# EAGLE library part WE-RJ45_LAN_1000_BASET_STD+2USB_GREEN/ORANGE-YELLOW (library Wuerth_Elektronik_eiSos_Version_6-12)
WE-RJ45 LAN Transformer 1000 BaseT , STD + 2 USB with LED - RJ45 connector with integrated transformer common mode choke - 350 µH min.OCL with 8 mA bias - Complies with IEEE 802.3 - Extended temperature range from 0°C to +70°C available -- ADSL Modem -- Embedded PC -- LAN network applications -- Hub, Router, Switches
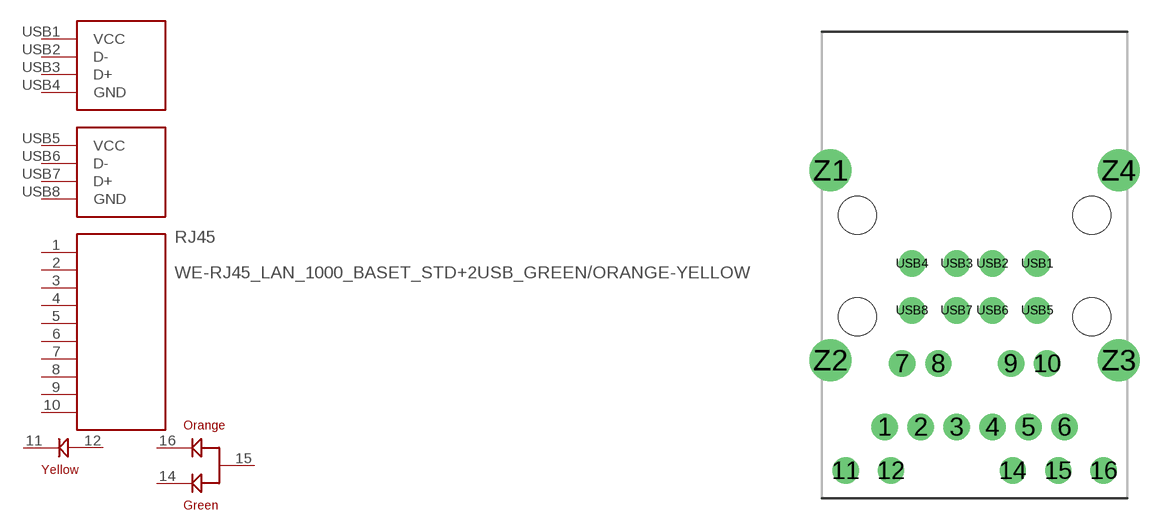
[diagram p130: symbol with the pads of WE-RJ45_LAN_1000_BASET_7497111611*; footprint WE-RJ45_LAN_1000_BASET_7497111611*]

Designator prefix RJ45

## WE-RJ45_LAN_1000_BASET_STD+2USB_GREEN/ORANGE-YELLOW_7497111611  [WE-RJ45_LAN_1000_BASET_7497111611*]
1  1  pas
2  2  pas
3  3  pas
4  4  pas
5  5  pas
6  6  pas
7  7  pas
8  8  pas
9  9  pas
10  10  pas
11  11  pas
12  12  pas
14  14  pas
15  15  pas
16  16  pas
USB1  VCC  pas
USB2  D-  pas
USB3  D+  pas
USB4  GND  pas
USB5  VCC  pas
USB6  D-  pas
USB7  D+  pas
USB8  GND  pas

## Footprint WE-RJ45_LAN_1000_BASET_7497111611* (pad centres in mm)
WE-RJ45 LAN Transformer 1000 BaseT, STD + 2 USB
drill 0.97 round: 1 -5.025,-14.35; 2 -3.015,-14.35; 3 -1.005,-14.35; 4 1.005,-14.35; 5 3.015,-14.35; 6 5.025,-14.35; 7 -4.065,-10.8; 8 -2.03,-10.8; 9 2.03,-10.8; 10 4.065,-10.8; 11 -7.225,-16.78; 12 -4.685,-16.78; 14 2.14,-16.78; 15 4.685,-16.78; 16 7.225,-16.78; USB1 3.505,-5.21; USB2 1.005,-5.21; USB3 -1.005,-5.21; USB4 -3.505,-5.21; USB5 3.505,-7.83; USB6 1.005,-7.83; USB7 -1.005,-7.83; USB8 -3.505,-7.83
drill 1.57 round: Z1 -8.065,0; Z2 -8.065,-10.62; Z3 8.065,-10.62; Z4 8.065,0
hole 2.13 at 6.565,-2.51
hole 2.13 at -6.565,-2.51
hole 2.13 at -6.565,-8.2
hole 2.13 at 6.565,-8.2